# Altium schematic symbol library PIC32MX174F256B-IM.SchLib: 1 symbol
Pins are listed as number, name and electrical type; pins without a type are passive.

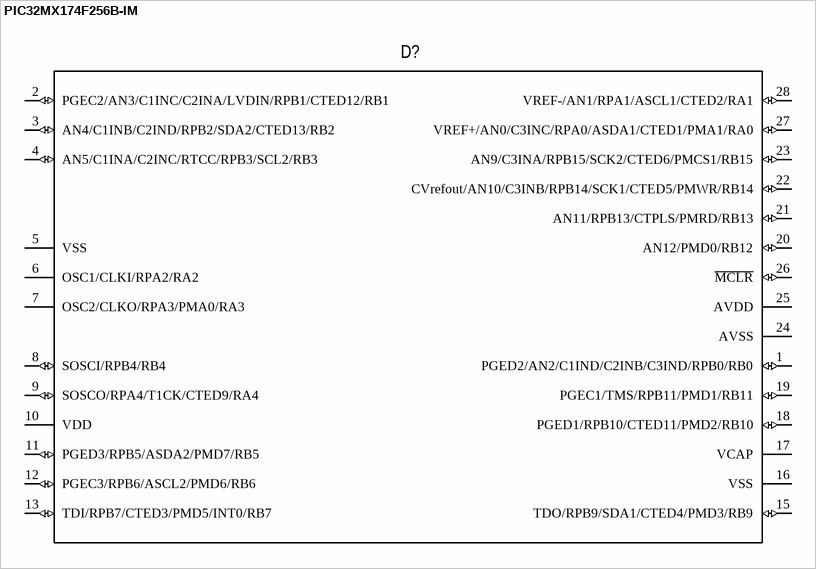
[diagram p0: symbol PIC32MX174F256B-IM]

## PIC32MX174F256B-IM
designator D?
pins: 1 PGED2/AN2/C1IND/C2INB/C3IND/RPB0/RB0 (io), 2 PGEC2/AN3/C1INC/C2INA/LVDIN/RPB1/CTED12/RB1 (io), 3 AN4/C1INB/C2IND/RPB2/SDA2/CTED13/RB2 (io), 4 AN5/C1INA/C2INC/RTCC/RPB3/SCL2/RB3 (io), 5 VSS (power), 6 OSC1/CLKI/RPA2/RA2, 7 OSC2/CLKO/RPA3/PMA0/RA3, 8 SOSCI/RPB4/RB4 (io), 9 SOSCO/RPA4/T1CK/CTED9/RA4 (io), 10 VDD (power), 11 PGED3/RPB5/ASDA2/PMD7/RB5 (io), 12 PGEC3/RPB6/ASCL2/PMD6/RB6 (io), 13 TDI/RPB7/CTED3/PMD5/INT0/RB7 (io), 15 TDO/RPB9/SDA1/CTED4/PMD3/RB9 (io), 16 VSS (power), 17 VCAP (power), 18 PGED1/RPB10/CTED11/PMD2/RB10 (io), 19 PGEC1/TMS/RPB11/PMD1/RB11 (io), 20 AN12/PMD0/RB12 (io), 21 AN11/RPB13/CTPLS/PMRD/RB13 (io), 22 CVrefout/AN10/C3INB/RPB14/SCK1/CTED5/PMWR/RB14 (io), 23 AN9/C3INA/RPB15/SCK2/CTED6/PMCS1/RB15 (io), 24 AVSS (power), 25 AVDD (power), 26 ~{MCLR} (io), 27 VREF+/AN0/C3INC/RPA0/ASDA1/CTED1/PMA1/RA0 (io), 28 VREF-/AN1/RPA1/ASCL1/CTED2/RA1 (io), 29 THPAD hidden